# Altium schematic symbol library Schlib1.SchLib: 2 symbols
Pins are listed as number, name and electrical type; pins without a type are passive.

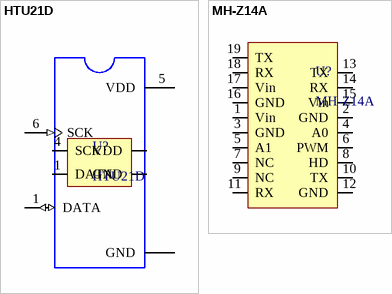
[diagram p0: symbols HTU21D to MH-Z14A]

## HTU21D
designator U?
Humidity Temperature Sensor 0 ~ 100% RH IÂ²C Â±2% RH 5s Surface Mount; MF: TE Connectivity; SnapEDA_Link: https://www.snapeda.com/parts/HTU21D/TE%20Connectivity%20ALCOSWITCH%20Switches/view-part/562219/?ref=snap; Availability: Unavailable; TE_purchase_URL: https://www.te.com/usa-en/product-CAT-HSC0004.html?te_bu=Cor&te_type=disp&te_campaign=seda_glo_cor-seda-global-disp-prtnr-fy19-seda-model-bom-cta_sma-317_1&elqCampaignId=32493; Value: *; Price: None; MP: HTU21D; Package: DFN-6 TE Connectivity
footprint QFN100P300X300X100-7N
pins: 1 DATA (io), 1 DATA, 2 GND, 2 GND, 3 VDD, 4 SCK, 5 VDD (power), 6 SCK (in), PAD GND

## MH-Z14A
designator U?
footprint MH-Z14A
pins: 1 Vin, 2 GND, 3 GND, 4 A0, 5 A1, 6 PWM, 7 NC, 8 HD, 9 NC, 10 TX, 11 RX, 12 GND, 13 TX, 14 RX, 15 Vin, 16 GND, 17 Vin, 18 RX, 19 TX